# Altium footprint library Header_Harwin_ M22-2510605 _6POS.PcbLib: 1 footprints
Each footprint in its own frame and in the unit in brackets; x right, y up, seen from the top. Pads: shape width x height; smd on the part's side, far side on the other; paste and mask are expansions set on the pad; w line width, h text height; cw(c..) or ccw(c..) is an arc to the next point about the centre after c.
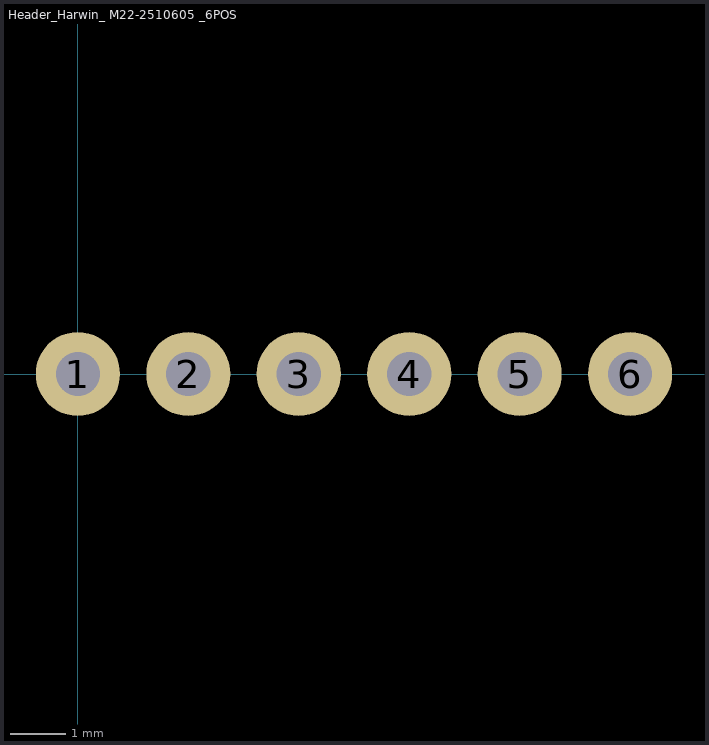
[diagram p0: the footprint, top view; thin cyan lines are the x and y axes]

## Header_Harwin_ M22-2510605 _6POS [mil]
pads (6):
  round 60 hole 31.5: 1(0,0) 2(78.74,0) 3(157.48,0) 4(236.22,0) 5(314.96,0) 6(393.7,0)
3D body "m22-2510605_asm.stp": height 200.79, standoff -86.61, extent -40.63,-39.37 431.81,39.37